# EAGLE library part PCA9306 (library MotorDriver)
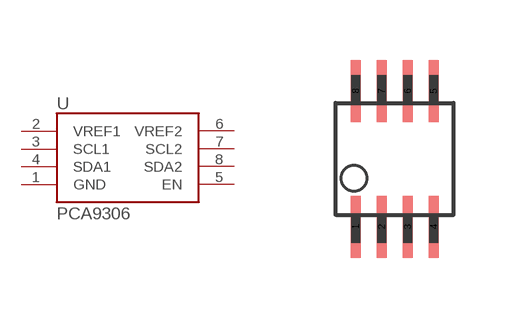
[diagram p4: symbol with the pads of SSOP8; footprint SSOP8]

Designator prefix U

## PCA9306DCT  [SSOP8]
1  GND  pwr
2  VREF1  pwr
3  SCL1
4  SDA1
5  EN  in
6  VREF2  pwr
7  SCL2
8  SDA2

## Footprint SSOP8 (pad centres in mm)
Small Shrink Outline Package
smd 0.25 x 1.55: 1 -0.975,-1.7; 2 -0.325,-1.7; 3 0.325,-1.7; 4 0.975,-1.7; 5 0.975,1.7; 6 0.325,1.7; 7 -0.325,1.7; 8 -0.975,1.7